# Altium footprint library MOLEX-06_90M.PcbLib: 1 footprints
Each footprint in its own frame and in the unit in brackets; x right, y up, seen from the top. Pads: shape width x height; smd on the part's side, far side on the other; paste and mask are expansions set on the pad; w line width, h text height; cw(c..) or ccw(c..) is an arc to the next point about the centre after c.
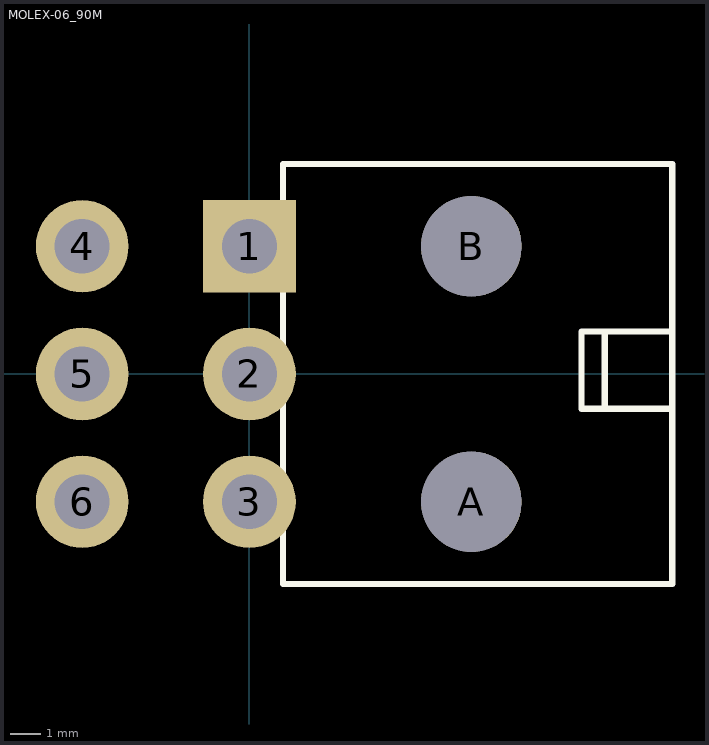
[diagram p0: the footprint, top view; thin cyan lines are the x and y axes]

## MOLEX-06_90M [mil]
pads (8):
  rect 120x120 hole 71: 1(0,165.35)
  round 120 hole 71: 2(0,0) 3(0,-165.35) 4(-216.54,165.35) 5(-216.54,0) 6(-216.54,-165.35)
  round 130 hole 130 unplated: A(287.4,-165.35) B(287.4,165.35)
TopOverlay:
  lines w8: 460,-44.88 460,55.12 ; 547.24,-44.88 430,-44.88 430,55.12 547.24,55.12 ; 43.31,-271.65 43.31,271.65 547.24,271.65 547.24,-271.65 43.31,-271.65
3D body: height 448.82, standoff -141.73, extent -238.98,-275.59 547.24,278.54